# EAGLE library part QFN16 (library gee_s)
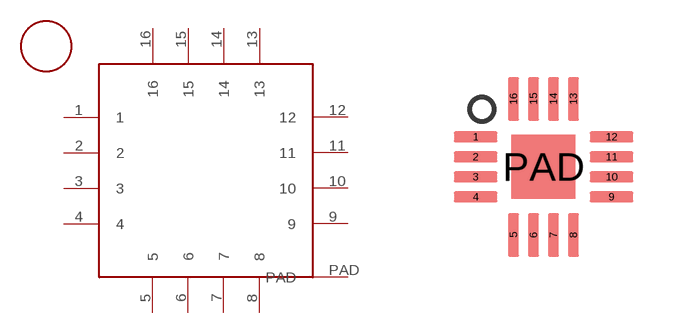
[diagram p23: symbol with the pads of QFN16; footprint QFN16]

Designator prefix -

## QFN16LONGLEADS, QFN16LEADSLONGLEADS, QFN16LONGLONGLEADS  [QFN16]
1  1
2  2
3  3
4  4
5  5
6  6
7  7
8  8
9  9
10  10
11  11
12  12
13  13
14  14
15  15
16  16
PAD  PAD

## Footprint QFN16 (pad centres in mm)
smd 1.1 x 0.28: 1 -1.7,0.75; 2 -1.7,0.25; 3 -1.7,-0.25; 4 -1.7,-0.75; 9 1.7,-0.75; 10 1.7,-0.25; 11 1.7,0.25; 12 1.7,0.75
smd 0.28 x 1.1: 5 -0.75,-1.7; 6 -0.25,-1.7; 7 0.25,-1.7; 8 0.75,-1.7; 13 0.75,1.7; 14 0.25,1.7; 15 -0.25,1.7; 16 -0.75,1.7
smd 1.6 x 1.6: PAD 0,0